# Altium integrated library TI Interface Touch Screen Controller.IntLib: 72 symbols (part 1 of 2)
Pins are listed as number, name and electrical type; pins without a type are passive.

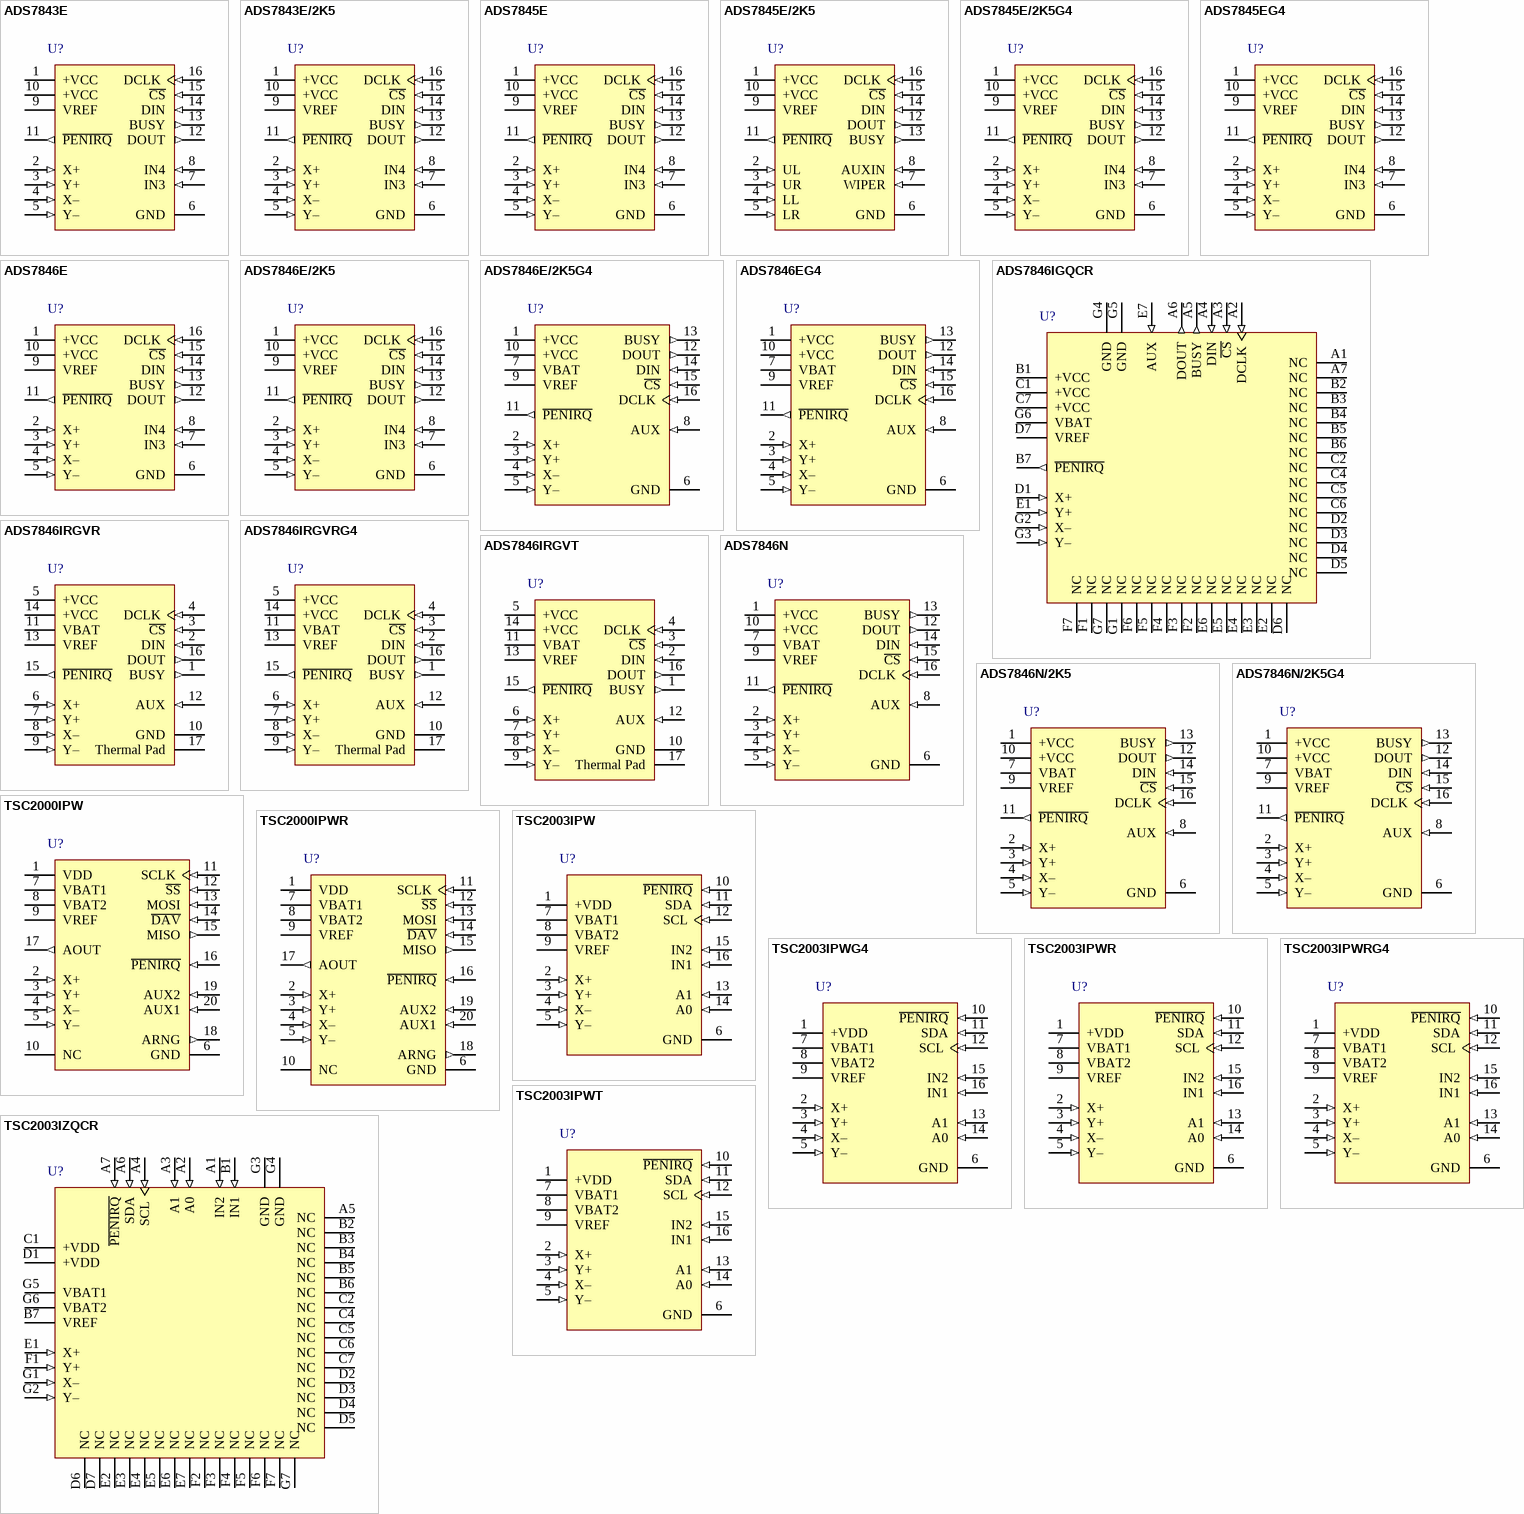
[diagram p0: symbols ADS7843E to TSC2003IZQCR]

## ADS7843E
designator U?
4-Wire Touch Screen Controller, 16-Pin SSOP, Pb-Free; Published: 6-Oct-2005; DatasheetVersion: May-2002; PackageVersion: Feb-2005; PackageReference: DBQ016; Publisher: Altium Limited; PackageDescription: SSOP; 16 Leads; Body Width 3.9 mm; Pitch 0.635 mm; Code_JEDEC: MO-137-AB; ComponentLink1Description: Manufacturer Link; ComponentLink1URL: http://focus.ti.com/docs/prod/folders/print/ads7843.html; ComponentLink2Description: Datasheet; ComponentLink2URL: http://focus.ti.com/lit/ds/symlink/ads7843.pdf
footprint DBQ016 (SSOP; 16 Leads; Body Width 3.9 mm; Pitch 0.635 mm)
pins: 1 +VCC (power), 2 X+ (in), 3 Y+ (in), 4 X– (in), 5 Y– (in), 6 GND (power), 7 IN3 (in), 8 IN4 (in), 9 VREF (power), 10 +VCC (power), 11 ~{PENIRQ} (out), 12 DOUT (out), 13 BUSY (out), 14 DIN (in), 15 ~{CS} (in), 16 DCLK (in)

## ADS7843E/2K5
designator U?
4-Wire Touch Screen Controller, 16-Pin SSOP, Pb-Free; Published: 6-Oct-2005; DatasheetVersion: May-2002; PackageVersion: Feb-2005; PackageReference: DBQ016; Publisher: Altium Limited; PackageDescription: SSOP; 16 Leads; Body Width 3.9 mm; Pitch 0.635 mm; Code_JEDEC: MO-137-AB; ComponentLink1Description: Manufacturer Link; ComponentLink1URL: http://focus.ti.com/docs/prod/folders/print/ads7843.html; ComponentLink2Description: Datasheet; ComponentLink2URL: http://focus.ti.com/lit/ds/symlink/ads7843.pdf
footprint DBQ016 (SSOP; 16 Leads; Body Width 3.9 mm; Pitch 0.635 mm)
pins: 1 +VCC (power), 2 X+ (in), 3 Y+ (in), 4 X– (in), 5 Y– (in), 6 GND (power), 7 IN3 (in), 8 IN4 (in), 9 VREF (power), 10 +VCC (power), 11 ~{PENIRQ} (out), 12 DOUT (out), 13 BUSY (out), 14 DIN (in), 15 ~{CS} (in), 16 DCLK (in)

## ADS7845E
designator U?
5-Wire Touch Screen Controller, 16-Pin SSOP, Pb-Free; Published: 6-Oct-2005; DatasheetVersion: Dec-1998; PackageVersion: Feb-2005; PackageReference: DBQ016; Publisher: Altium Limited; PackageDescription: SSOP; 16 Leads; Body Width 3.9 mm; Pitch 0.635 mm; Code_JEDEC: MO-137-AB; ComponentLink1Description: Manufacturer Link; ComponentLink1URL: http://focus.ti.com/docs/prod/folders/print/ads7845.html; ComponentLink2Description: Datasheet; ComponentLink2URL: http://focus.ti.com/lit/ds/symlink/ads7845.pdf
footprint DBQ016 (SSOP; 16 Leads; Body Width 3.9 mm; Pitch 0.635 mm)
pins: 1 +VCC (power), 2 X+ (in), 3 Y+ (in), 4 X– (in), 5 Y– (in), 6 GND (power), 7 IN3 (in), 8 IN4 (in), 9 VREF (power), 10 +VCC (power), 11 ~{PENIRQ} (out), 12 DOUT (out), 13 BUSY (out), 14 DIN (in), 15 ~{CS} (in), 16 DCLK (in)

## ADS7845E/2K5
designator U?
5-Wire Touch Screen Controller, 16-Pin SSOP, Pb-Free; Published: 6-Oct-2005; DatasheetVersion: Dec-1998; PackageVersion: Feb-2005; PackageReference: DBQ016; Publisher: Altium Limited; PackageDescription: SSOP; 16 Leads; Body Width 3.9 mm; Pitch 0.635 mm; Code_JEDEC: MO-137-AB; ComponentLink1Description: Manufacturer Link; ComponentLink1URL: http://focus.ti.com/docs/prod/folders/print/ads7845.html; ComponentLink2Description: Datasheet; ComponentLink2URL: http://focus.ti.com/lit/ds/symlink/ads7845.pdf
footprint DBQ016 (SSOP; 16 Leads; Body Width 3.9 mm; Pitch 0.635 mm)
pins: 1 +VCC (power), 2 UL (in), 3 UR (in), 4 LL (in), 5 LR (in), 6 GND (power), 7 WIPER (in), 8 AUXIN (in), 9 VREF (power), 10 +VCC (power), 11 ~{PENIRQ} (out), 12 DOUT (out), 13 BUSY (out), 14 DIN (in), 15 ~{CS} (in), 16 DCLK (in)

## ADS7845E/2K5G4
designator U?
5-Wire Touch Screen Controller, 16-Pin SSOP, Pb-Free; Published: 6-Oct-2005; DatasheetVersion: Dec-1998; PackageVersion: Feb-2005; PackageReference: DBQ016; Publisher: Altium Limited; PackageDescription: SSOP; 16 Leads; Body Width 3.9 mm; Pitch 0.635 mm; Code_JEDEC: MO-137-AB; ComponentLink1Description: Manufacturer Link; ComponentLink1URL: http://focus.ti.com/docs/prod/folders/print/ads7845.html; ComponentLink2Description: Datasheet; ComponentLink2URL: http://focus.ti.com/lit/ds/symlink/ads7845.pdf
footprint DBQ016 (SSOP; 16 Leads; Body Width 3.9 mm; Pitch 0.635 mm)
pins: 1 +VCC (power), 2 X+ (in), 3 Y+ (in), 4 X– (in), 5 Y– (in), 6 GND (power), 7 IN3 (in), 8 IN4 (in), 9 VREF (power), 10 +VCC (power), 11 ~{PENIRQ} (out), 12 DOUT (out), 13 BUSY (out), 14 DIN (in), 15 ~{CS} (in), 16 DCLK (in)

## ADS7845EG4
designator U?
5-Wire Touch Screen Controller, 16-Pin SSOP, Pb-Free; Published: 6-Oct-2005; DatasheetVersion: Dec-1998; PackageVersion: Feb-2005; PackageReference: DBQ016; Publisher: Altium Limited; PackageDescription: SSOP; 16 Leads; Body Width 3.9 mm; Pitch 0.635 mm; Code_JEDEC: MO-137-AB; ComponentLink1Description: Manufacturer Link; ComponentLink1URL: http://focus.ti.com/docs/prod/folders/print/ads7845.html; ComponentLink2Description: Datasheet; ComponentLink2URL: http://focus.ti.com/lit/ds/symlink/ads7845.pdf
footprint DBQ016 (SSOP; 16 Leads; Body Width 3.9 mm; Pitch 0.635 mm)
pins: 1 +VCC (power), 2 X+ (in), 3 Y+ (in), 4 X– (in), 5 Y– (in), 6 GND (power), 7 IN3 (in), 8 IN4 (in), 9 VREF (power), 10 +VCC (power), 11 ~{PENIRQ} (out), 12 DOUT (out), 13 BUSY (out), 14 DIN (in), 15 ~{CS} (in), 16 DCLK (in)

## ADS7846E
designator U?
4-Wire Touch Screen Controller, 16-Pin SSOP; Published: 6-Oct-2005; DatasheetVersion: Jan-2005; PackageVersion: Feb-2005; PackageReference: DBQ016; Publisher: Altium Limited; PackageDescription: SSOP; 16 Leads; Body Width 3.9 mm; Pitch 0.635 mm; Code_JEDEC: MO-137-AB; ComponentLink1Description: Manufacturer Link; ComponentLink1URL: http://focus.ti.com/docs/prod/folders/print/ads7846.html; ComponentLink2Description: Datasheet; ComponentLink2URL: http://focus.ti.com/lit/ds/symlink/ads7846.pdf
footprint DBQ016 (SSOP; 16 Leads; Body Width 3.9 mm; Pitch 0.635 mm)
pins: 1 +VCC (power), 2 X+ (in), 3 Y+ (in), 4 X– (in), 5 Y– (in), 6 GND (power), 7 IN3 (in), 8 IN4 (in), 9 VREF (power), 10 +VCC (power), 11 ~{PENIRQ} (out), 12 DOUT (out), 13 BUSY (out), 14 DIN (in), 15 ~{CS} (in), 16 DCLK (in)

## ADS7846E/2K5
designator U?
4-Wire Touch Screen Controller, 16-Pin SSOP; Published: 6-Oct-2005; DatasheetVersion: Jan-2005; PackageVersion: Feb-2005; PackageReference: DBQ016; Publisher: Altium Limited; PackageDescription: SSOP; 16 Leads; Body Width 3.9 mm; Pitch 0.635 mm; Code_JEDEC: MO-137-AB; ComponentLink1Description: Manufacturer Link; ComponentLink1URL: http://focus.ti.com/docs/prod/folders/print/ads7846.html; ComponentLink2Description: Datasheet; ComponentLink2URL: http://focus.ti.com/lit/ds/symlink/ads7846.pdf
footprint DBQ016 (SSOP; 16 Leads; Body Width 3.9 mm; Pitch 0.635 mm)
pins: 1 +VCC (power), 2 X+ (in), 3 Y+ (in), 4 X– (in), 5 Y– (in), 6 GND (power), 7 IN3 (in), 8 IN4 (in), 9 VREF (power), 10 +VCC (power), 11 ~{PENIRQ} (out), 12 DOUT (out), 13 BUSY (out), 14 DIN (in), 15 ~{CS} (in), 16 DCLK (in)

## ADS7846E/2K5G4
designator U?
4-Wire Touch Screen Controller, 16-Pin SSOP, Pb-Free; Published: 6-Oct-2005; DatasheetVersion: Jan-2005; PackageVersion: Feb-2005; PackageReference: DBQ016; Publisher: Altium Limited; PackageDescription: SSOP; 16 Leads; Body Width 3.9 mm; Pitch 0.635 mm; Code_JEDEC: MO-137-AB; ComponentLink1Description: Manufacturer Link; ComponentLink1URL: http://focus.ti.com/docs/prod/folders/print/ads7846.html; ComponentLink2Description: Datasheet; ComponentLink2URL: http://focus.ti.com/lit/ds/symlink/ads7846.pdf
footprint DBQ016 (SSOP; 16 Leads; Body Width 3.9 mm; Pitch 0.635 mm)
pins: 1 +VCC (power), 2 X+ (in), 3 Y+ (in), 4 X– (in), 5 Y– (in), 6 GND (power), 7 VBAT (power), 8 AUX (in), 9 VREF (power), 10 +VCC (power), 11 ~{PENIRQ} (out), 12 DOUT (out), 13 BUSY (out), 14 DIN (in), 15 ~{CS} (in), 16 DCLK (in)

## ADS7846EG4
designator U?
4-Wire Touch Screen Controller, 16-Pin SSOP, Pb-Free; Published: 6-Oct-2005; DatasheetVersion: Jan-2005; PackageVersion: Feb-2005; PackageReference: DBQ016; Publisher: Altium Limited; PackageDescription: SSOP; 16 Leads; Body Width 3.9 mm; Pitch 0.635 mm; Code_JEDEC: MO-137-AB; ComponentLink1Description: Manufacturer Link; ComponentLink1URL: http://focus.ti.com/docs/prod/folders/print/ads7846.html; ComponentLink2Description: Datasheet; ComponentLink2URL: http://focus.ti.com/lit/ds/symlink/ads7846.pdf
footprint DBQ016 (SSOP; 16 Leads; Body Width 3.9 mm; Pitch 0.635 mm)
pins: 1 +VCC (power), 2 X+ (in), 3 Y+ (in), 4 X– (in), 5 Y– (in), 6 GND (power), 7 VBAT (power), 8 AUX (in), 9 VREF (power), 10 +VCC (power), 11 ~{PENIRQ} (out), 12 DOUT (out), 13 BUSY (out), 14 DIN (in), 15 ~{CS} (in), 16 DCLK (in)

## ADS7846IGQCR
designator U?
4-Wire Touch Screen Controller, 48-Pin BGA Microstar Junior; Published: 6-Oct-2005; LatestRevisionDate: 13-Apr-2006; LatestRevisionNote: IPC-7351 Footprint Added.; DatasheetVersion: Jan-2005; PackageVersion: Jan-2002; PackageReference: GQC48; Publisher: Altium Limited; PackageDescription: 48-Ball Plastic Ball Grid Array 0.5 mm Pitch; Code_JEDEC: MO-225; ComponentLink1Description: Manufacturer Link; ComponentLink1URL: http://focus.ti.com/docs/prod/folders/print/ads7846.html; ComponentLink2Description: Datasheet; ComponentLink2URL: http://focus.ti.com/lit/ds/symlink/ads7846.pdf
footprint GQC48 (BGA, 48-Leads, Body 4x4mm, Pitch 0.5mm)
pins: A1 NC, A2 DCLK (in), A3 ~{CS} (in), A4 DIN (in), A5 BUSY (out), A6 DOUT (out), A7 NC, B1 +VCC (power), B2 NC, B3 NC, B4 NC, B5 NC, B6 NC, B7 ~{PENIRQ} (out), C1 +VCC (power), C2 NC, C4 NC, C5 NC, C6 NC, C7 +VCC (power), D1 X+ (in), D2 NC, D3 NC, D4 NC, D5 NC, D6 NC, D7 VREF (power), E1 Y+ (in), E2 NC, E3 NC, E4 NC, E5 NC, E6 NC, E7 AUX (in), F1 NC, F2 NC, F3 NC, F4 NC, F5 NC, F6 NC, F7 NC, G1 NC, G2 X– (in), G3 Y– (in), G4 GND (power), G5 GND (power), G6 VBAT (power), G7 NC

## ADS7846IRGVR
designator U?
4-Wire Touch Screen Controller, 16-Pin PQFN; Published: 6-Oct-2005; LatestRevisionDate: 13-Apr-2006; LatestRevisionNote: IPC-7351 Footprint Added.; DatasheetVersion: Jan-2005; PackageVersion: Apr-2003; PackageReference: RGV16; Publisher: Altium Limited; PackageDescription: 16-Pin Plastic Quad Flat No-Lead 0.65 mm Pitch; Code_JEDEC: MO-220; ComponentLink1Description: Manufacturer Link; ComponentLink1URL: http://focus.ti.com/docs/prod/folders/print/ads7846.html; ComponentLink2Description: Datasheet; ComponentLink2URL: http://focus.ti.com/lit/ds/symlink/ads7846.pdf
footprint RGV16_N (QFN, 16-Leads, Body 4x4 mm, Pitch 0.65mm, IPC Medium Density)
footprint RGV16_L (QFN, 16-Leads, Body 4x4 mm, Pitch 0.65mm, IPC High Density)
footprint RGV16_M (QFN, 16-Leads, Body 4x4 mm, Pitch 0.65mm, IPC Low Density)
pins: 1 BUSY (out), 2 DIN (in), 3 ~{CS} (in), 4 DCLK (in), 5 +VCC (power), 6 X+ (in), 7 Y+ (in), 8 X– (in), 9 Y– (in), 10 GND (power), 11 VBAT (power), 12 AUX (in), 13 VREF (power), 14 +VCC (power), 15 ~{PENIRQ} (out), 16 DOUT (out), 17 Thermal Pad (power)

## ADS7846IRGVRG4
designator U?
4-Wire Touch Screen Controller, 16-Pin PQFN, Pb-Free; Published: 6-Oct-2005; LatestRevisionDate: 13-Apr-2006; LatestRevisionNote: IPC-7351 Footprint Added.; DatasheetVersion: Jan-2005; PackageVersion: Apr-2003; PackageReference: RGV16; Publisher: Altium Limited; PackageDescription: 16-Pin Plastic Quad Flat No-Lead 0.65 mm Pitch; Code_JEDEC: MO-220; ComponentLink1Description: Manufacturer Link; ComponentLink1URL: http://focus.ti.com/docs/prod/folders/print/ads7846.html; ComponentLink2Description: Datasheet; ComponentLink2URL: http://focus.ti.com/lit/ds/symlink/ads7846.pdf
footprint RGV16_N (QFN, 16-Leads, Body 4x4 mm, Pitch 0.65mm, IPC Medium Density)
footprint RGV16_L (QFN, 16-Leads, Body 4x4 mm, Pitch 0.65mm, IPC High Density)
footprint RGV16_M (QFN, 16-Leads, Body 4x4 mm, Pitch 0.65mm, IPC Low Density)
pins: 1 BUSY (out), 2 DIN (in), 3 ~{CS} (in), 4 DCLK (in), 5 +VCC (power), 6 X+ (in), 7 Y+ (in), 8 X– (in), 9 Y– (in), 10 GND (power), 11 VBAT (power), 12 AUX (in), 13 VREF (power), 14 +VCC (power), 15 ~{PENIRQ} (out), 16 DOUT (out), 17 Thermal Pad (power)

## ADS7846IRGVT
designator U?
4-Wire Touch Screen Controller, 16-Pin PQFN; Published: 6-Oct-2005; LatestRevisionDate: 13-Apr-2006; LatestRevisionNote: IPC-7351 Footprint Added.; DatasheetVersion: Jan-2005; PackageVersion: Apr-2003; PackageReference: RGV16; Publisher: Altium Limited; PackageDescription: 16-Pin Plastic Quad Flat No-Lead 0.65 mm Pitch; Code_JEDEC: MO-220; ComponentLink1Description: Manufacturer Link; ComponentLink1URL: http://focus.ti.com/docs/prod/folders/print/ads7846.html; ComponentLink2Description: Datasheet; ComponentLink2URL: http://focus.ti.com/lit/ds/symlink/ads7846.pdf
footprint RGV16_N (QFN, 16-Leads, Body 4x4 mm, Pitch 0.65mm, IPC Medium Density)
footprint RGV16_L (QFN, 16-Leads, Body 4x4 mm, Pitch 0.65mm, IPC High Density)
footprint RGV16_M (QFN, 16-Leads, Body 4x4 mm, Pitch 0.65mm, IPC Low Density)
pins: 1 BUSY (out), 2 DIN (in), 3 ~{CS} (in), 4 DCLK (in), 5 +VCC (power), 6 X+ (in), 7 Y+ (in), 8 X– (in), 9 Y– (in), 10 GND (power), 11 VBAT (power), 12 AUX (in), 13 VREF (power), 14 +VCC (power), 15 ~{PENIRQ} (out), 16 DOUT (out), 17 Thermal Pad (power)

## ADS7846N
designator U?
4-Wire Touch Screen Controller, 16-Pin TSSOP; Published: 6-Oct-2005; DatasheetVersion: Jan-2005; PackageVersion: Feb-1999; PackageReference: PW016; Publisher: Altium Limited; PackageDescription: Shrink Small Outline; 16 Leads; Body Width 4.4 mm; Pitch 0.65 mm; ComponentLink1Description: Manufacturer Link; ComponentLink1URL: http://focus.ti.com/docs/prod/folders/print/ads7846.html; ComponentLink2Description: Datasheet; ComponentLink2URL: http://focus.ti.com/lit/ds/symlink/ads7846.pdf
footprint PW016 (Shrink Small Outline; 16 Leads; Body Width 4.4 mm; Pitch 0.65 mm)
pins: 1 +VCC (power), 2 X+ (in), 3 Y+ (in), 4 X– (in), 5 Y– (in), 6 GND (power), 7 VBAT (power), 8 AUX (in), 9 VREF (power), 10 +VCC (power), 11 ~{PENIRQ} (out), 12 DOUT (out), 13 BUSY (out), 14 DIN (in), 15 ~{CS} (in), 16 DCLK (in)

## ADS7846N/2K5
designator U?
4-Wire Touch Screen Controller, 16-Pin TSSOP; Published: 6-Oct-2005; DatasheetVersion: Jan-2005; PackageVersion: Feb-1999; PackageReference: PW016; Publisher: Altium Limited; PackageDescription: Shrink Small Outline; 16 Leads; Body Width 4.4 mm; Pitch 0.65 mm; ComponentLink1Description: Manufacturer Link; ComponentLink1URL: http://focus.ti.com/docs/prod/folders/print/ads7846.html; ComponentLink2Description: Datasheet; ComponentLink2URL: http://focus.ti.com/lit/ds/symlink/ads7846.pdf
footprint PW016 (Shrink Small Outline; 16 Leads; Body Width 4.4 mm; Pitch 0.65 mm)
pins: 1 +VCC (power), 2 X+ (in), 3 Y+ (in), 4 X– (in), 5 Y– (in), 6 GND (power), 7 VBAT (power), 8 AUX (in), 9 VREF (power), 10 +VCC (power), 11 ~{PENIRQ} (out), 12 DOUT (out), 13 BUSY (out), 14 DIN (in), 15 ~{CS} (in), 16 DCLK (in)

## ADS7846N/2K5G4
designator U?
4-Wire Touch Screen Controller, 16-Pin TSSOP, Pb-Free; Published: 6-Oct-2005; DatasheetVersion: Jan-2005; PackageVersion: Feb-1999; PackageReference: PW016; Publisher: Altium Limited; PackageDescription: Shrink Small Outline; 16 Leads; Body Width 4.4 mm; Pitch 0.65 mm; ComponentLink1Description: Manufacturer Link; ComponentLink1URL: http://focus.ti.com/docs/prod/folders/print/ads7846.html; ComponentLink2Description: Datasheet; ComponentLink2URL: http://focus.ti.com/lit/ds/symlink/ads7846.pdf
footprint PW016 (Shrink Small Outline; 16 Leads; Body Width 4.4 mm; Pitch 0.65 mm)
pins: 1 +VCC (power), 2 X+ (in), 3 Y+ (in), 4 X– (in), 5 Y– (in), 6 GND (power), 7 VBAT (power), 8 AUX (in), 9 VREF (power), 10 +VCC (power), 11 ~{PENIRQ} (out), 12 DOUT (out), 13 BUSY (out), 14 DIN (in), 15 ~{CS} (in), 16 DCLK (in)

## TSC2000IPW
designator U?
4-Wire Programmable Touch Screen Controller with 8/10/12-Bit 125-KHz ADC and SPI Interface, 20-Pin TSSOP, Pb-Free; Published: 6-Oct-2005; DatasheetVersion: Feb-2002; PackageVersion: Feb-1999; PackageReference: PW020; Publisher: Altium Limited; PackageDescription: Shrink Small Outline; 20 Leads; Body Width 4.4 mm; Pitch 0.65 mm; ComponentLink1Description: Manufacturer Link; ComponentLink1URL: http://focus.ti.com/docs/prod/folders/print/tsc2000.html; ComponentLink2Description: Datasheet; ComponentLink2URL: http://focus.ti.com/lit/ds/symlink/tcs2000.pdf
footprint PW020 (Shrink Small Outline; 20 Leads; Body Width 4.4 mm; Pitch 0.65 mm)
pins: 1 VDD (power), 2 X+ (in), 3 Y+ (in), 4 X– (in), 5 Y– (in), 6 GND (power), 7 VBAT1 (power), 8 VBAT2 (power), 9 VREF (power), 10 NC, 11 SCLK (in), 12 ~{SS} (in), 13 MOSI (in), 14 ~{DAV} (in), 15 MISO (out), 16 ~{PENIRQ} (in), 17 AOUT (out), 18 ARNG (out), 19 AUX2 (in), 20 AUX1 (in)

## TSC2000IPWR
designator U?
4-Wire Programmable Touch Screen Controller with 8/10/12-Bit 125-KHz ADC and SPI Interface, 20-Pin TSSOP, Pb-Free; Published: 6-Oct-2005; DatasheetVersion: Feb-2002; PackageVersion: Feb-1999; PackageReference: PW020; Publisher: Altium Limited; PackageDescription: Shrink Small Outline; 20 Leads; Body Width 4.4 mm; Pitch 0.65 mm; ComponentLink1Description: Manufacturer Link; ComponentLink1URL: http://focus.ti.com/docs/prod/folders/print/tsc2000.html; ComponentLink2Description: Datasheet; ComponentLink2URL: http://focus.ti.com/lit/ds/symlink/tcs2000.pdf
footprint PW020 (Shrink Small Outline; 20 Leads; Body Width 4.4 mm; Pitch 0.65 mm)
pins: 1 VDD (power), 2 X+ (in), 3 Y+ (in), 4 X– (in), 5 Y– (in), 6 GND (power), 7 VBAT1 (power), 8 VBAT2 (power), 9 VREF (power), 10 NC, 11 SCLK (in), 12 ~{SS} (in), 13 MOSI (in), 14 ~{DAV} (in), 15 MISO (out), 16 ~{PENIRQ} (in), 17 AOUT (out), 18 ARNG (out), 19 AUX2 (in), 20 AUX1 (in)

## TSC2003IPW
designator U?
4-Wire Resistive Touch Screen Controller, 16-Pin TSSOP, Pb-Free; Published: 6-Oct-2005; DatasheetVersion: Jan-2005; PackageVersion: Feb-1999; PackageReference: PW016; Publisher: Altium Limited; PackageDescription: Shrink Small Outline; 16 Leads; Body Width 4.4 mm; Pitch 0.65 mm; ComponentLink1Description: Manufacturer Link; ComponentLink1URL: http://focus.ti.com/docs/prod/folders/print/tsc2003.html; ComponentLink2Description: Datasheet; ComponentLink2URL: http://focus.ti.com/lit/ds/symlink/tcs2003.pdf
footprint PW016 (Shrink Small Outline; 16 Leads; Body Width 4.4 mm; Pitch 0.65 mm)
pins: 1 +VDD (power), 2 X+ (in), 3 Y+ (in), 4 X– (in), 5 Y– (in), 6 GND (power), 7 VBAT1 (power), 8 VBAT2 (power), 9 VREF (power), 10 ~{PENIRQ} (in), 11 SDA (in), 12 SCL (in), 13 A1 (in), 14 A0 (in), 15 IN2 (in), 16 IN1 (in)

## TSC2003IPWG4
designator U?
4-Wire Resistive Touch Screen Controller, 16-Pin TSSOP, Pb-Free; Published: 6-Oct-2005; DatasheetVersion: Jan-2005; PackageVersion: Feb-1999; PackageReference: PW016; Publisher: Altium Limited; PackageDescription: Shrink Small Outline; 16 Leads; Body Width 4.4 mm; Pitch 0.65 mm; ComponentLink1Description: Manufacturer Link; ComponentLink1URL: http://focus.ti.com/docs/prod/folders/print/tsc2003.html; ComponentLink2Description: Datasheet; ComponentLink2URL: http://focus.ti.com/lit/ds/symlink/tcs2003.pdf
footprint PW016 (Shrink Small Outline; 16 Leads; Body Width 4.4 mm; Pitch 0.65 mm)
pins: 1 +VDD (power), 2 X+ (in), 3 Y+ (in), 4 X– (in), 5 Y– (in), 6 GND (power), 7 VBAT1 (power), 8 VBAT2 (power), 9 VREF (power), 10 ~{PENIRQ} (in), 11 SDA (in), 12 SCL (in), 13 A1 (in), 14 A0 (in), 15 IN2 (in), 16 IN1 (in)

## TSC2003IPWR
designator U?
4-Wire Resistive Touch Screen Controller, 16-Pin TSSOP, Pb-Free; Published: 6-Oct-2005; DatasheetVersion: Jan-2005; PackageVersion: Feb-1999; PackageReference: PW016; Publisher: Altium Limited; PackageDescription: Shrink Small Outline; 16 Leads; Body Width 4.4 mm; Pitch 0.65 mm; ComponentLink1Description: Manufacturer Link; ComponentLink1URL: http://focus.ti.com/docs/prod/folders/print/tsc2003.html; ComponentLink2Description: Datasheet; ComponentLink2URL: http://focus.ti.com/lit/ds/symlink/tcs2003.pdf
footprint PW016 (Shrink Small Outline; 16 Leads; Body Width 4.4 mm; Pitch 0.65 mm)
pins: 1 +VDD (power), 2 X+ (in), 3 Y+ (in), 4 X– (in), 5 Y– (in), 6 GND (power), 7 VBAT1 (power), 8 VBAT2 (power), 9 VREF (power), 10 ~{PENIRQ} (in), 11 SDA (in), 12 SCL (in), 13 A1 (in), 14 A0 (in), 15 IN2 (in), 16 IN1 (in)

## TSC2003IPWRG4
designator U?
4-Wire Resistive Touch Screen Controller, 16-Pin TSSOP, Pb-Free; Published: 6-Oct-2005; DatasheetVersion: Jan-2005; PackageVersion: Feb-1999; PackageReference: PW016; Publisher: Altium Limited; PackageDescription: Shrink Small Outline; 16 Leads; Body Width 4.4 mm; Pitch 0.65 mm; ComponentLink1Description: Manufacturer Link; ComponentLink1URL: http://focus.ti.com/docs/prod/folders/print/tsc2003.html; ComponentLink2Description: Datasheet; ComponentLink2URL: http://focus.ti.com/lit/ds/symlink/tcs2003.pdf
footprint PW016 (Shrink Small Outline; 16 Leads; Body Width 4.4 mm; Pitch 0.65 mm)
pins: 1 +VDD (power), 2 X+ (in), 3 Y+ (in), 4 X– (in), 5 Y– (in), 6 GND (power), 7 VBAT1 (power), 8 VBAT2 (power), 9 VREF (power), 10 ~{PENIRQ} (in), 11 SDA (in), 12 SCL (in), 13 A1 (in), 14 A0 (in), 15 IN2 (in), 16 IN1 (in)

## TSC2003IPWT
designator U?
4-Wire Resistive Touch Screen Controller, 48-Pin TSSOP; Published: 6-Oct-2005; DatasheetVersion: Jan-2005; PackageVersion: Feb-1999; PackageReference: PW016; Publisher: Altium Limited; PackageDescription: Shrink Small Outline; 16 Leads; Body Width 4.4 mm; Pitch 0.65 mm; ComponentLink1Description: Manufacturer Link; ComponentLink1URL: http://focus.ti.com/docs/prod/folders/print/tsc2003.html; ComponentLink2Description: Datasheet; ComponentLink2URL: http://focus.ti.com/lit/ds/symlink/tcs2003.pdf
footprint PW016 (Shrink Small Outline; 16 Leads; Body Width 4.4 mm; Pitch 0.65 mm)
pins: 1 +VDD (power), 2 X+ (in), 3 Y+ (in), 4 X– (in), 5 Y– (in), 6 GND (power), 7 VBAT1 (power), 8 VBAT2 (power), 9 VREF (power), 10 ~{PENIRQ} (in), 11 SDA (in), 12 SCL (in), 13 A1 (in), 14 A0 (in), 15 IN2 (in), 16 IN1 (in)

## TSC2003IZQCR
designator U?
4-Wire Resistive Touch Screen Controller, 48-Pin PBGA, Pb-Free; Published: 6-Oct-2005; LatestRevisionDate: 13-Apr-2006; LatestRevisionNote: IPC-7351 Footprint Added.; DatasheetVersion: Jan-2005; PackageVersion: Oct-2002; PackageReference: ZQC48; Publisher: Altium Limited; PackageDescription: 48-Ball Plastic Ball Grid Array 0.5 mm Pitch; Code_JEDEC: MO-225; ComponentLink1Description: Manufacturer Link; ComponentLink1URL: http://focus.ti.com/docs/prod/folders/print/tsc2003.html; ComponentLink2Description: Datasheet; ComponentLink2URL: http://focus.ti.com/lit/ds/symlink/tcs2003.pdf
footprint ZQC48 (BGA, 48-Leads, Body 4x4mm, Pitch 0.5mm)
pins: A1 IN2 (in), A2 A0 (in), A3 A1 (in), A4 SCL (in), A5 NC, A6 SDA (in), A7 ~{PENIRQ} (in), B1 IN1 (in), B2 NC, B3 NC, B4 NC, B5 NC, B6 NC, B7 VREF (power), C1 +VDD (power), C2 NC, C4 NC, C5 NC, C6 NC, C7 NC, D1 +VDD (power), D2 NC, D3 NC, D4 NC, D5 NC, D6 NC, D7 NC, E1 X+ (in), E2 NC, E3 NC, E4 NC, E5 NC, E6 NC, E7 NC, F1 Y+ (in), F2 NC, F3 NC, F4 NC, F5 NC, F6 NC, F7 NC, G1 X– (in), G2 Y– (in), G3 GND (power), G4 GND (power), G5 VBAT1 (power), G6 VBAT2 (power), G7 NC

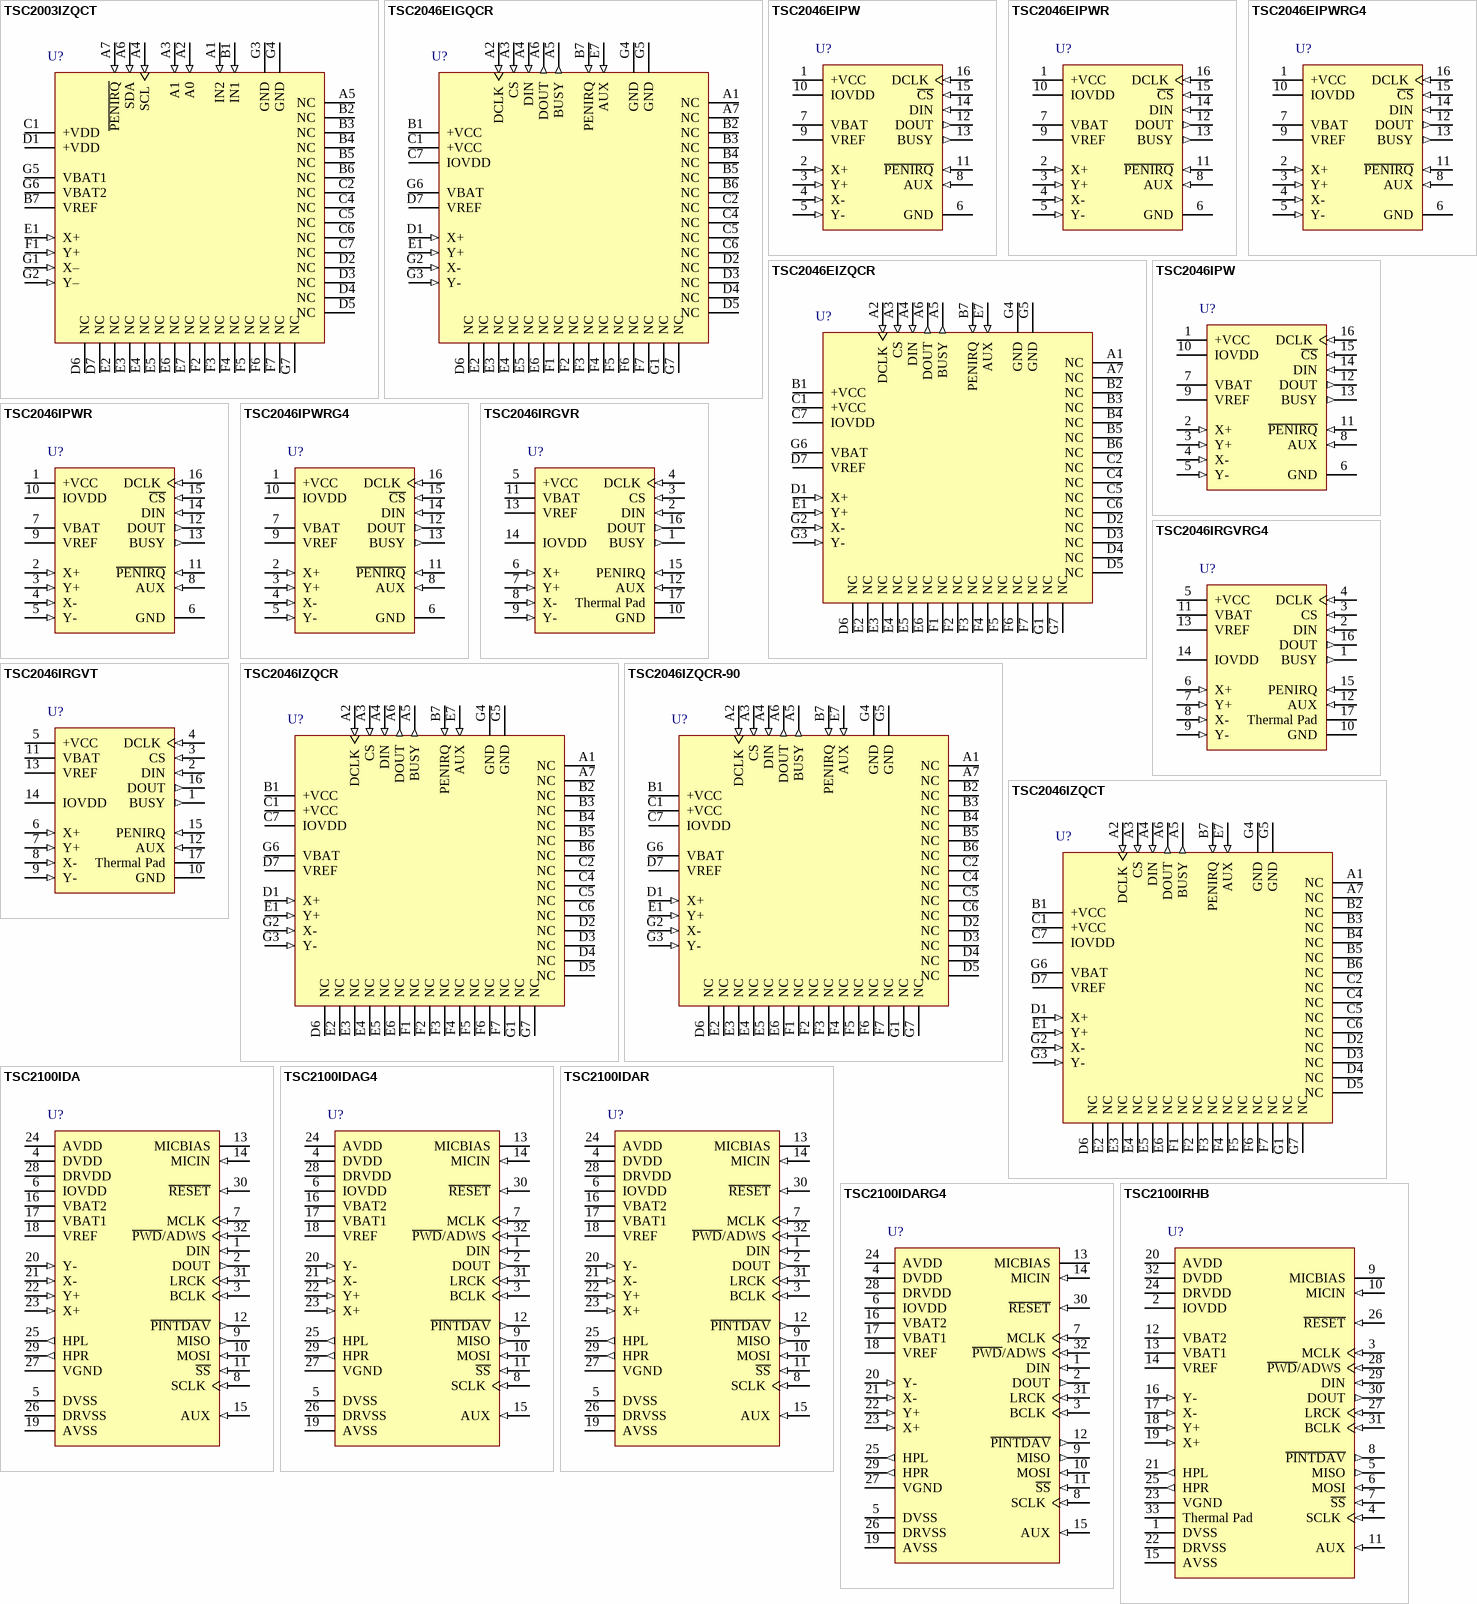
[diagram p1: symbols TSC2003IZQCT to TSC2100IRHB]

## TSC2003IZQCT
designator U?
4-Wire Resistive Touch Screen Controller, 48-Pin PBGA; Published: 6-Oct-2005; LatestRevisionDate: 13-Apr-2006; LatestRevisionNote: IPC-7351 Footprint Added.; DatasheetVersion: Jan-2005; PackageVersion: Oct-2002; PackageReference: ZQC48; Publisher: Altium Limited; PackageDescription: 48-Ball Plastic Ball Grid Array 0.5 mm Pitch; Code_JEDEC: MO-225; ComponentLink1Description: Manufacturer Link; ComponentLink1URL: http://focus.ti.com/docs/prod/folders/print/tsc2003.html; ComponentLink2Description: Datasheet; ComponentLink2URL: http://focus.ti.com/lit/ds/symlink/tcs2003.pdf
footprint ZQC48 (BGA, 48-Leads, Body 4x4mm, Pitch 0.5mm)
pins: A1 IN2 (in), A2 A0 (in), A3 A1 (in), A4 SCL (in), A5 NC, A6 SDA (in), A7 ~{PENIRQ} (in), B1 IN1 (in), B2 NC, B3 NC, B4 NC, B5 NC, B6 NC, B7 VREF (power), C1 +VDD (power), C2 NC, C4 NC, C5 NC, C6 NC, C7 NC, D1 +VDD (power), D2 NC, D3 NC, D4 NC, D5 NC, D6 NC, D7 NC, E1 X+ (in), E2 NC, E3 NC, E4 NC, E5 NC, E6 NC, E7 NC, F1 Y+ (in), F2 NC, F3 NC, F4 NC, F5 NC, F6 NC, F7 NC, G1 X– (in), G2 Y– (in), G3 GND (power), G4 GND (power), G5 VBAT1 (power), G6 VBAT2 (power), G7 NC

## TSC2046EIGQCR
designator U?
4-Wire Touch Screen controller with Low-Voltage I/O Interface, 48-Pin VFBGA; Published: 6-Oct-2005; LatestRevisionDate: 13-Apr-2006; LatestRevisionNote: IPC-7351 Footprint Added.; DatasheetVersion: Jan-2005; PackageVersion: Jan-2002; PackageReference: GQC48; Publisher: Altium Limited; PackageDescription: 48-Ball Plastic Ball Grid Array 0.5 mm Pitch; Code_JEDEC: MO-225; ComponentLink1Description: Manufacturer Link; ComponentLink1URL: http://focus.ti.com/docs/prod/folders/print/tsc2046.html; ComponentLink2Description: Datasheet; ComponentLink2URL: http://focus.ti.com/lit/ds/symlink/tcs2046.pdf
footprint GQC48 (BGA, 48-Leads, Body 4x4mm, Pitch 0.5mm)
pins: A1 NC, A2 DCLK (in), A3 CS (in), A4 DIN (in), A5 BUSY (out), A6 DOUT (out), A7 NC, B1 +VCC (power), B2 NC, B3 NC, B4 NC, B5 NC, B6 NC, B7 PENIRQ (in), C1 +VCC (power), C2 NC, C4 NC, C5 NC, C6 NC, C7 IOVDD (power), D1 X+ (in), D2 NC, D3 NC, D4 NC, D5 NC, D6 NC, D7 VREF (power), E1 Y+ (in), E2 NC, E3 NC, E4 NC, E5 NC, E6 NC, E7 AUX (in), F1 NC, F2 NC, F3 NC, F4 NC, F5 NC, F6 NC, F7 NC, G1 NC, G2 X- (in), G3 Y- (in), G4 GND (power), G5 GND (power), G6 VBAT (power), G7 NC

## TSC2046EIPW
designator U?
4-Wire Touch Screen controller with Low-Voltage I/O Interface, 16-Pin TSSOP; Published: 6-Oct-2005; DatasheetVersion: Jan-2005; PackageVersion: Feb-1999; PackageReference: PW016; Publisher: Altium Limited; PackageDescription: Shrink Small Outline; 16 Leads; Body Width 4.4 mm; Pitch 0.65 mm; ComponentLink1Description: Manufacturer Link; ComponentLink1URL: http://focus.ti.com/docs/prod/folders/print/tsc2046.html; ComponentLink2Description: Datasheet; ComponentLink2URL: http://focus.ti.com/lit/ds/symlink/tcs2046.pdf
footprint PW016 (Shrink Small Outline; 16 Leads; Body Width 4.4 mm; Pitch 0.65 mm)
pins: 1 +VCC (power), 2 X+ (in), 3 Y+ (in), 4 X- (in), 5 Y- (in), 6 GND (power), 7 VBAT (power), 8 AUX (in), 9 VREF (power), 10 IOVDD (power), 11 ~{PENIRQ} (in), 12 DOUT (out), 13 BUSY (out), 14 DIN (in), 15 ~{CS} (in), 16 DCLK (in)

## TSC2046EIPWR
designator U?
4-Wire Touch Screen controller with Low-Voltage I/O Interface, 16-Pin TSSOP; Published: 6-Oct-2005; DatasheetVersion: Jan-2005; PackageVersion: Feb-1999; PackageReference: PW016; Publisher: Altium Limited; PackageDescription: Shrink Small Outline; 16 Leads; Body Width 4.4 mm; Pitch 0.65 mm; ComponentLink1Description: Manufacturer Link; ComponentLink1URL: http://focus.ti.com/docs/prod/folders/print/tsc2046.html; ComponentLink2Description: Datasheet; ComponentLink2URL: http://focus.ti.com/lit/ds/symlink/tcs2046.pdf
footprint PW016 (Shrink Small Outline; 16 Leads; Body Width 4.4 mm; Pitch 0.65 mm)
pins: 1 +VCC (power), 2 X+ (in), 3 Y+ (in), 4 X- (in), 5 Y- (in), 6 GND (power), 7 VBAT (power), 8 AUX (in), 9 VREF (power), 10 IOVDD (power), 11 ~{PENIRQ} (in), 12 DOUT (out), 13 BUSY (out), 14 DIN (in), 15 ~{CS} (in), 16 DCLK (in)

## TSC2046EIPWRG4
designator U?
4-Wire Touch Screen controller with Low-Voltage I/O Interface, 16-Pin TSSOP; Published: 6-Oct-2005; DatasheetVersion: Jan-2005; PackageVersion: Feb-1999; PackageReference: PW016; Publisher: Altium Limited; PackageDescription: Shrink Small Outline; 16 Leads; Body Width 4.4 mm; Pitch 0.65 mm; ComponentLink1Description: Manufacturer Link; ComponentLink1URL: http://focus.ti.com/docs/prod/folders/print/tsc2046.html; ComponentLink2Description: Datasheet; ComponentLink2URL: http://focus.ti.com/lit/ds/symlink/tcs2046.pdf
footprint PW016 (Shrink Small Outline; 16 Leads; Body Width 4.4 mm; Pitch 0.65 mm)
pins: 1 +VCC (power), 2 X+ (in), 3 Y+ (in), 4 X- (in), 5 Y- (in), 6 GND (power), 7 VBAT (power), 8 AUX (in), 9 VREF (power), 10 IOVDD (power), 11 ~{PENIRQ} (in), 12 DOUT (out), 13 BUSY (out), 14 DIN (in), 15 ~{CS} (in), 16 DCLK (in)

## TSC2046EIZQCR
designator U?
4-Wire Touch Screen controller with Low-Voltage I/O Interface, 48-Pin BGA Microstar Junior; Published: 6-Oct-2005; LatestRevisionDate: 13-Apr-2006; LatestRevisionNote: IPC-7351 Footprint Added.; DatasheetVersion: Jan-2005; PackageVersion: Oct-2002; PackageReference: ZQC48; Publisher: Altium Limited; PackageDescription: 48-Ball Plastic Ball Grid Array 0.5 mm Pitch; Code_JEDEC: MO-225; ComponentLink1Description: Manufacturer Link; ComponentLink1URL: http://focus.ti.com/docs/prod/folders/print/tsc2046.html; ComponentLink2Description: Datasheet; ComponentLink2URL: http://focus.ti.com/lit/ds/symlink/tcs2046.pdf
footprint ZQC48 (BGA, 48-Leads, Body 4x4mm, Pitch 0.5mm)
pins: A1 NC, A2 DCLK (in), A3 CS (in), A4 DIN (in), A5 BUSY (out), A6 DOUT (out), A7 NC, B1 +VCC (power), B2 NC, B3 NC, B4 NC, B5 NC, B6 NC, B7 PENIRQ (in), C1 +VCC (power), C2 NC, C4 NC, C5 NC, C6 NC, C7 IOVDD (power), D1 X+ (in), D2 NC, D3 NC, D4 NC, D5 NC, D6 NC, D7 VREF (power), E1 Y+ (in), E2 NC, E3 NC, E4 NC, E5 NC, E6 NC, E7 AUX (in), F1 NC, F2 NC, F3 NC, F4 NC, F5 NC, F6 NC, F7 NC, G1 NC, G2 X- (in), G3 Y- (in), G4 GND (power), G5 GND (power), G6 VBAT (power), G7 NC

## TSC2046IPW
designator U?
4-Wire Touch Screen controller with Low-Voltage I/O Interface, 16-Pin TSSOP, Pb-Free; Published: 6-Oct-2005; DatasheetVersion: Jan-2005; PackageVersion: Feb-1999; PackageReference: PW016; Publisher: Altium Limited; PackageDescription: Shrink Small Outline; 16 Leads; Body Width 4.4 mm; Pitch 0.65 mm; ComponentLink1Description: Manufacturer Link; ComponentLink1URL: http://focus.ti.com/docs/prod/folders/print/tsc2046.html; ComponentLink2Description: Datasheet; ComponentLink2URL: http://focus.ti.com/lit/ds/symlink/tcs2046.pdf
footprint PW016 (Shrink Small Outline; 16 Leads; Body Width 4.4 mm; Pitch 0.65 mm)
pins: 1 +VCC (power), 2 X+ (in), 3 Y+ (in), 4 X- (in), 5 Y- (in), 6 GND (power), 7 VBAT (power), 8 AUX (in), 9 VREF (power), 10 IOVDD (power), 11 ~{PENIRQ} (in), 12 DOUT (out), 13 BUSY (out), 14 DIN (in), 15 ~{CS} (in), 16 DCLK (in)

## TSC2046IPWR
designator U?
4-Wire Touch Screen controller with Low-Voltage I/O Interface, 16-Pin TSSOP, Pb-Free; Published: 6-Oct-2005; DatasheetVersion: Jan-2005; PackageVersion: Feb-1999; PackageReference: PW016; Publisher: Altium Limited; PackageDescription: Shrink Small Outline; 16 Leads; Body Width 4.4 mm; Pitch 0.65 mm; ComponentLink1Description: Manufacturer Link; ComponentLink1URL: http://focus.ti.com/docs/prod/folders/print/tsc2046.html; ComponentLink2Description: Datasheet; ComponentLink2URL: http://focus.ti.com/lit/ds/symlink/tcs2046.pdf
footprint PW016 (Shrink Small Outline; 16 Leads; Body Width 4.4 mm; Pitch 0.65 mm)
pins: 1 +VCC (power), 2 X+ (in), 3 Y+ (in), 4 X- (in), 5 Y- (in), 6 GND (power), 7 VBAT (power), 8 AUX (in), 9 VREF (power), 10 IOVDD (power), 11 ~{PENIRQ} (in), 12 DOUT (out), 13 BUSY (out), 14 DIN (in), 15 ~{CS} (in), 16 DCLK (in)

## TSC2046IPWRG4
designator U?
4-Wire Touch Screen controller with Low-Voltage I/O Interface, 16-Pin TSSOP, Pb-Free; Published: 6-Oct-2005; DatasheetVersion: Jan-2005; PackageVersion: Feb-1999; PackageReference: PW016; Publisher: Altium Limited; PackageDescription: Shrink Small Outline; 16 Leads; Body Width 4.4 mm; Pitch 0.65 mm; ComponentLink1Description: Manufacturer Link; ComponentLink1URL: http://focus.ti.com/docs/prod/folders/print/tsc2046.html; ComponentLink2Description: Datasheet; ComponentLink2URL: http://focus.ti.com/lit/ds/symlink/tcs2046.pdf
footprint PW016 (Shrink Small Outline; 16 Leads; Body Width 4.4 mm; Pitch 0.65 mm)
pins: 1 +VCC (power), 2 X+ (in), 3 Y+ (in), 4 X- (in), 5 Y- (in), 6 GND (power), 7 VBAT (power), 8 AUX (in), 9 VREF (power), 10 IOVDD (power), 11 ~{PENIRQ} (in), 12 DOUT (out), 13 BUSY (out), 14 DIN (in), 15 ~{CS} (in), 16 DCLK (in)

## TSC2046IRGVR
designator U?
4-Wire Touch Screen controller with Low-Voltage I/O Interface, 16-Pin QFN, Pb-Free; Published: 6-Oct-2005; LatestRevisionDate: 13-Apr-2006; LatestRevisionNote: IPC-7351 Footprint Added.; DatasheetVersion: Jan-2005; PackageVersion: Apr-2003; PackageReference: RGV16; Publisher: Altium Limited; PackageDescription: 16-Pin Plastic Quad Flat No-Lead 0.65 mm Pitch; Code_JEDEC: MO-220; ComponentLink1Description: Manufacturer Link; ComponentLink1URL: http://focus.ti.com/docs/prod/folders/print/tsc2046.html; ComponentLink2Description: Datasheet; ComponentLink2URL: http://focus.ti.com/lit/ds/symlink/tcs2046.pdf
footprint RGV16_N (QFN, 16-Leads, Body 4x4 mm, Pitch 0.65mm, IPC Medium Density)
footprint RGV16_L (QFN, 16-Leads, Body 4x4 mm, Pitch 0.65mm, IPC High Density)
footprint RGV16_M (QFN, 16-Leads, Body 4x4 mm, Pitch 0.65mm, IPC Low Density)
pins: 1 BUSY (out), 2 DIN (in), 3 CS (in), 4 DCLK (in), 5 +VCC (power), 6 X+ (in), 7 Y+ (in), 8 X- (in), 9 Y- (in), 10 GND (power), 11 VBAT (power), 12 AUX (in), 13 VREF (power), 14 IOVDD (power), 15 PENIRQ (in), 16 DOUT (out), 17 Thermal Pad (power)

## TSC2046IRGVRG4
designator U?
4-Wire Touch Screen controller with Low-Voltage I/O Interface, 16-Pin QFN, Pb-Free; Published: 6-Oct-2005; LatestRevisionDate: 13-Apr-2006; LatestRevisionNote: IPC-7351 Footprint Added.; DatasheetVersion: Jan-2005; PackageVersion: Apr-2003; PackageReference: RGV16; Publisher: Altium Limited; PackageDescription: 16-Pin Plastic Quad Flat No-Lead 0.65 mm Pitch; Code_JEDEC: MO-220; ComponentLink1Description: Manufacturer Link; ComponentLink1URL: http://focus.ti.com/docs/prod/folders/print/tsc2046.html; ComponentLink2Description: Datasheet; ComponentLink2URL: http://focus.ti.com/lit/ds/symlink/tcs2046.pdf
footprint RGV16_N (QFN, 16-Leads, Body 4x4 mm, Pitch 0.65mm, IPC Medium Density)
footprint RGV16_L (QFN, 16-Leads, Body 4x4 mm, Pitch 0.65mm, IPC High Density)
footprint RGV16_M (QFN, 16-Leads, Body 4x4 mm, Pitch 0.65mm, IPC Low Density)
pins: 1 BUSY (out), 2 DIN (in), 3 CS (in), 4 DCLK (in), 5 +VCC (power), 6 X+ (in), 7 Y+ (in), 8 X- (in), 9 Y- (in), 10 GND (power), 11 VBAT (power), 12 AUX (in), 13 VREF (power), 14 IOVDD (power), 15 PENIRQ (in), 16 DOUT (out), 17 Thermal Pad (power)

## TSC2046IRGVT
designator U?
4-Wire Touch Screen controller with Low-Voltage I/O Interface, 16-Pin QFN, Pb-Free; Published: 6-Oct-2005; LatestRevisionDate: 13-Apr-2006; LatestRevisionNote: IPC-7351 Footprint Added.; DatasheetVersion: Jan-2005; PackageVersion: Apr-2003; PackageReference: RGV16; Publisher: Altium Limited; PackageDescription: 16-Pin Plastic Quad Flat No-Lead 0.65 mm Pitch; Code_JEDEC: MO-220; ComponentLink1Description: Manufacturer Link; ComponentLink1URL: http://focus.ti.com/docs/prod/folders/print/tsc2046.html; ComponentLink2Description: Datasheet; ComponentLink2URL: http://focus.ti.com/lit/ds/symlink/tcs2046.pdf
footprint RGV16_N (QFN, 16-Leads, Body 4x4 mm, Pitch 0.65mm, IPC Medium Density)
footprint RGV16_L (QFN, 16-Leads, Body 4x4 mm, Pitch 0.65mm, IPC High Density)
footprint RGV16_M (QFN, 16-Leads, Body 4x4 mm, Pitch 0.65mm, IPC Low Density)
pins: 1 BUSY (out), 2 DIN (in), 3 CS (in), 4 DCLK (in), 5 +VCC (power), 6 X+ (in), 7 Y+ (in), 8 X- (in), 9 Y- (in), 10 GND (power), 11 VBAT (power), 12 AUX (in), 13 VREF (power), 14 IOVDD (power), 15 PENIRQ (in), 16 DOUT (out), 17 Thermal Pad (power)

## TSC2046IZQCR
designator U?
4-Wire Touch Screen controller with Low-Voltage I/O Interface, 48-Pin BGA Microstar Junior, Pb-Free; Published: 6-Oct-2005; LatestRevisionDate: 13-Apr-2006; LatestRevisionNote: IPC-7351 Footprint Added.; DatasheetVersion: Jan-2005; PackageVersion: Oct-2002; PackageReference: ZQC48; Publisher: Altium Limited; PackageDescription: 48-Ball Plastic Ball Grid Array 0.5 mm Pitch; Code_JEDEC: MO-225; ComponentLink1Description: Manufacturer Link; ComponentLink1URL: http://focus.ti.com/docs/prod/folders/print/tsc2046.html; ComponentLink2Description: Datasheet; ComponentLink2URL: http://focus.ti.com/lit/ds/symlink/tcs2046.pdf
footprint ZQC48 (BGA, 48-Leads, Body 4x4mm, Pitch 0.5mm)
pins: A1 NC, A2 DCLK (in), A3 CS (in), A4 DIN (in), A5 BUSY (out), A6 DOUT (out), A7 NC, B1 +VCC (power), B2 NC, B3 NC, B4 NC, B5 NC, B6 NC, B7 PENIRQ (in), C1 +VCC (power), C2 NC, C4 NC, C5 NC, C6 NC, C7 IOVDD (power), D1 X+ (in), D2 NC, D3 NC, D4 NC, D5 NC, D6 NC, D7 VREF (power), E1 Y+ (in), E2 NC, E3 NC, E4 NC, E5 NC, E6 NC, E7 AUX (in), F1 NC, F2 NC, F3 NC, F4 NC, F5 NC, F6 NC, F7 NC, G1 NC, G2 X- (in), G3 Y- (in), G4 GND (power), G5 GND (power), G6 VBAT (power), G7 NC

## TSC2046IZQCR-90
designator U?
4-Wire Touch Screen controller with Low-Voltage I/O Interface, 48-Pin BGA Microstar Junior, Pb-Free; Published: 6-Oct-2005; LatestRevisionDate: 13-Apr-2006; LatestRevisionNote: IPC-7351 Footprint Added.; DatasheetVersion: Jan-2005; PackageVersion: Oct-2002; PackageReference: ZQC48; Publisher: Altium Limited; PackageDescription: 48-Ball Plastic Ball Grid Array 0.5 mm Pitch; Code_JEDEC: MO-225; ComponentLink1Description: Manufacturer Link; ComponentLink1URL: http://focus.ti.com/docs/prod/folders/print/tsc2046.html; ComponentLink2Description: Datasheet; ComponentLink2URL: http://focus.ti.com/lit/ds/symlink/tcs2046.pdf
footprint ZQC48 (BGA, 48-Leads, Body 4x4mm, Pitch 0.5mm)
pins: A1 NC, A2 DCLK (in), A3 CS (in), A4 DIN (in), A5 BUSY (out), A6 DOUT (out), A7 NC, B1 +VCC (power), B2 NC, B3 NC, B4 NC, B5 NC, B6 NC, B7 PENIRQ (in), C1 +VCC (power), C2 NC, C4 NC, C5 NC, C6 NC, C7 IOVDD (power), D1 X+ (in), D2 NC, D3 NC, D4 NC, D5 NC, D6 NC, D7 VREF (power), E1 Y+ (in), E2 NC, E3 NC, E4 NC, E5 NC, E6 NC, E7 AUX (in), F1 NC, F2 NC, F3 NC, F4 NC, F5 NC, F6 NC, F7 NC, G1 NC, G2 X- (in), G3 Y- (in), G4 GND (power), G5 GND (power), G6 VBAT (power), G7 NC

## TSC2046IZQCT
designator U?
4-Wire Touch Screen controller with Low-Voltage I/O Interface, 48-Pin BGA Microstar Junior, Pb-Free; Published: 6-Oct-2005; LatestRevisionDate: 13-Apr-2006; LatestRevisionNote: IPC-7351 Footprint Added.; DatasheetVersion: Jan-2005; PackageVersion: Oct-2002; PackageReference: ZQC48; Publisher: Altium Limited; PackageDescription: 48-Ball Plastic Ball Grid Array 0.5 mm Pitch; Code_JEDEC: MO-225; ComponentLink1Description: Manufacturer Link; ComponentLink1URL: http://focus.ti.com/docs/prod/folders/print/tsc2046.html; ComponentLink2Description: Datasheet; ComponentLink2URL: http://focus.ti.com/lit/ds/symlink/tcs2046.pdf
footprint ZQC48 (BGA, 48-Leads, Body 4x4mm, Pitch 0.5mm)
pins: A1 NC, A2 DCLK (in), A3 CS (in), A4 DIN (in), A5 BUSY (out), A6 DOUT (out), A7 NC, B1 +VCC (power), B2 NC, B3 NC, B4 NC, B5 NC, B6 NC, B7 PENIRQ (in), C1 +VCC (power), C2 NC, C4 NC, C5 NC, C6 NC, C7 IOVDD (power), D1 X+ (in), D2 NC, D3 NC, D4 NC, D5 NC, D6 NC, D7 VREF (power), E1 Y+ (in), E2 NC, E3 NC, E4 NC, E5 NC, E6 NC, E7 AUX (in), F1 NC, F2 NC, F3 NC, F4 NC, F5 NC, F6 NC, F7 NC, G1 NC, G2 X- (in), G3 Y- (in), G4 GND (power), G5 GND (power), G6 VBAT (power), G7 NC

## TSC2100IDA
designator U?
Highly Integrated Touch Screen Controller with On-Chip Processor and Audio Codec, 32-Pin TSSOP, Pb-Free; Published: 6-Oct-2005; DatasheetVersion: Nov-2003; PackageVersion: Nov-1998; PackageReference: DA32; Publisher: Altium Limited; PackageDescription: Shrink Small Outline; 32 Leads; Body Width 6.2 mm; Pitch 0.65 mm; Code_JEDEC: MO-153; ComponentLink1Description: Manufacturer Link; ComponentLink1URL: http://focus.ti.com/docs/prod/folders/print/tsc2100.html; ComponentLink2Description: Datasheet; ComponentLink2URL: http://focus.ti.com/lit/ds/symlink/tcs2100.pdf
footprint DA32 (Shrink Small Outline; 32 Leads; Body Width 6.2 mm; Pitch 0.65 mm)
pins: 1 DIN (in), 2 DOUT (out), 3 BCLK (in), 4 DVDD (power), 5 DVSS (power), 6 IOVDD (power), 7 MCLK (in), 8 SCLK (in), 9 MISO (out), 10 MOSI (in), 11 ~{SS} (in), 12 ~{PINTDAV} (out), 13 MICBIAS (power), 14 MICIN (in), 15 AUX (in), 16 VBAT2 (power), 17 VBAT1 (power), 18 VREF (power), 19 AVSS (power), 20 Y- (in), 21 X- (in), 22 Y+ (in), 23 X+ (in), 24 AVDD (power), 25 HPL (out), 26 DRVSS (power), 27 VGND (power), 28 DRVDD (power), 29 HPR (out), 30 ~{RESET} (in), 31 LRCK (in), 32 ~{PWD}/ADWS (in)

## TSC2100IDAG4
designator U?
Highly Integrated Touch Screen Controller with On-Chip Processor and Audio Codec, 32-Pin TSSOP, Pb-Free; Published: 6-Oct-2005; DatasheetVersion: Nov-2003; PackageVersion: Nov-1998; PackageReference: DA32; Publisher: Altium Limited; PackageDescription: Shrink Small Outline; 32 Leads; Body Width 6.2 mm; Pitch 0.65 mm; Code_JEDEC: MO-153; ComponentLink1Description: Manufacturer Link; ComponentLink1URL: http://focus.ti.com/docs/prod/folders/print/tsc2100.html; ComponentLink2Description: Datasheet; ComponentLink2URL: http://focus.ti.com/lit/ds/symlink/tcs2100.pdf
footprint DA32 (Shrink Small Outline; 32 Leads; Body Width 6.2 mm; Pitch 0.65 mm)
pins: 1 DIN (in), 2 DOUT (out), 3 BCLK (in), 4 DVDD (power), 5 DVSS (power), 6 IOVDD (power), 7 MCLK (in), 8 SCLK (in), 9 MISO (out), 10 MOSI (in), 11 ~{SS} (in), 12 ~{PINTDAV} (out), 13 MICBIAS (power), 14 MICIN (in), 15 AUX (in), 16 VBAT2 (power), 17 VBAT1 (power), 18 VREF (power), 19 AVSS (power), 20 Y- (in), 21 X- (in), 22 Y+ (in), 23 X+ (in), 24 AVDD (power), 25 HPL (out), 26 DRVSS (power), 27 VGND (power), 28 DRVDD (power), 29 HPR (out), 30 ~{RESET} (in), 31 LRCK (in), 32 ~{PWD}/ADWS (in)

## TSC2100IDAR
designator U?
Highly Integrated Touch Screen Controller with On-Chip Processor and Audio Codec, 32-Pin TSSOP, Pb-Free; Published: 6-Oct-2005; DatasheetVersion: Nov-2003; PackageVersion: Nov-1998; PackageReference: DA32; Publisher: Altium Limited; PackageDescription: Shrink Small Outline; 32 Leads; Body Width 6.2 mm; Pitch 0.65 mm; Code_JEDEC: MO-153; ComponentLink1Description: Manufacturer Link; ComponentLink1URL: http://focus.ti.com/docs/prod/folders/print/tsc2100.html; ComponentLink2Description: Datasheet; ComponentLink2URL: http://focus.ti.com/lit/ds/symlink/tcs2100.pdf
footprint DA32 (Shrink Small Outline; 32 Leads; Body Width 6.2 mm; Pitch 0.65 mm)
pins: 1 DIN (in), 2 DOUT (out), 3 BCLK (in), 4 DVDD (power), 5 DVSS (power), 6 IOVDD (power), 7 MCLK (in), 8 SCLK (in), 9 MISO (out), 10 MOSI (in), 11 ~{SS} (in), 12 ~{PINTDAV} (out), 13 MICBIAS (power), 14 MICIN (in), 15 AUX (in), 16 VBAT2 (power), 17 VBAT1 (power), 18 VREF (power), 19 AVSS (power), 20 Y- (in), 21 X- (in), 22 Y+ (in), 23 X+ (in), 24 AVDD (power), 25 HPL (out), 26 DRVSS (power), 27 VGND (power), 28 DRVDD (power), 29 HPR (out), 30 ~{RESET} (in), 31 LRCK (in), 32 ~{PWD}/ADWS (in)

## TSC2100IDARG4
designator U?
Highly Integrated Touch Screen Controller with On-Chip Processor and Audio Codec, 32-Pin TSSOP, Pb-Free; Published: 6-Oct-2005; DatasheetVersion: Nov-2003; PackageVersion: Nov-1998; PackageReference: DA32; Publisher: Altium Limited; PackageDescription: Shrink Small Outline; 32 Leads; Body Width 6.2 mm; Pitch 0.65 mm; Code_JEDEC: MO-153; ComponentLink1Description: Manufacturer Link; ComponentLink1URL: http://focus.ti.com/docs/prod/folders/print/tsc2100.html; ComponentLink2Description: Datasheet; ComponentLink2URL: http://focus.ti.com/lit/ds/symlink/tcs2100.pdf
footprint DA32 (Shrink Small Outline; 32 Leads; Body Width 6.2 mm; Pitch 0.65 mm)
pins: 1 DIN (in), 2 DOUT (out), 3 BCLK (in), 4 DVDD (power), 5 DVSS (power), 6 IOVDD (power), 7 MCLK (in), 8 SCLK (in), 9 MISO (out), 10 MOSI (in), 11 ~{SS} (in), 12 ~{PINTDAV} (out), 13 MICBIAS (power), 14 MICIN (in), 15 AUX (in), 16 VBAT2 (power), 17 VBAT1 (power), 18 VREF (power), 19 AVSS (power), 20 Y- (in), 21 X- (in), 22 Y+ (in), 23 X+ (in), 24 AVDD (power), 25 HPL (out), 26 DRVSS (power), 27 VGND (power), 28 DRVDD (power), 29 HPR (out), 30 ~{RESET} (in), 31 LRCK (in), 32 ~{PWD}/ADWS (in)

## TSC2100IRHB
designator U?
Highly Integrated Touch Screen Controller with On-Chip Processor and Audio Codec, 32-Pin QFN, Pb-Free; Published: 6-Oct-2005; LatestRevisionDate: 13-Apr-2006; LatestRevisionNote: IPC-7351 Footprint Added.; DatasheetVersion: Nov-2003; PackageVersion: 2004; PackageReference: RHB32; Publisher: Altium Limited; PackageDescription: 32-Pin Plastic Quad Flat No-Lead 0.5 mm Pitch; Code_JEDEC: MO-022; ComponentLink1Description: Manufacturer Link; ComponentLink1URL: http://focus.ti.com/docs/prod/folders/print/tsc2100.html; ComponentLink2Description: Datasheet; ComponentLink2URL: http://focus.ti.com/lit/ds/symlink/tcs2100.pdf
footprint RHB32_N (QFN, 32-Leads, Body 5x5mm, Pitch 0.5mm, IPC Medium Density)
footprint RHB32_L (QFN, 32-Leads, Body 5x5mm, Pitch 0.5mm, IPC High Density)
footprint RHB32_M (QFN, 32-Leads, Body 5x5mm, Pitch 0.5mm, IPC Low Density)
pins: 1 DVSS (power), 2 IOVDD (power), 3 MCLK (in), 4 SCLK (in), 5 MISO (out), 6 MOSI (in), 7 ~{SS} (in), 8 ~{PINTDAV} (out), 9 MICBIAS (power), 10 MICIN (in), 11 AUX (in), 12 VBAT2 (power), 13 VBAT1 (power), 14 VREF (power), 15 AVSS (power), 16 Y- (in), 17 X- (in), 18 Y+ (in), 19 X+ (in), 20 AVDD (power), 21 HPL (out), 22 DRVSS (power), 23 VGND (power), 24 DRVDD (power), 25 HPR (out), 26 ~{RESET} (in), 27 LRCK (in), 28 ~{PWD}/ADWS (in), 29 DIN (in), 30 DOUT (out), 31 BCLK (in), 32 DVDD (power), 33 Thermal Pad (power)

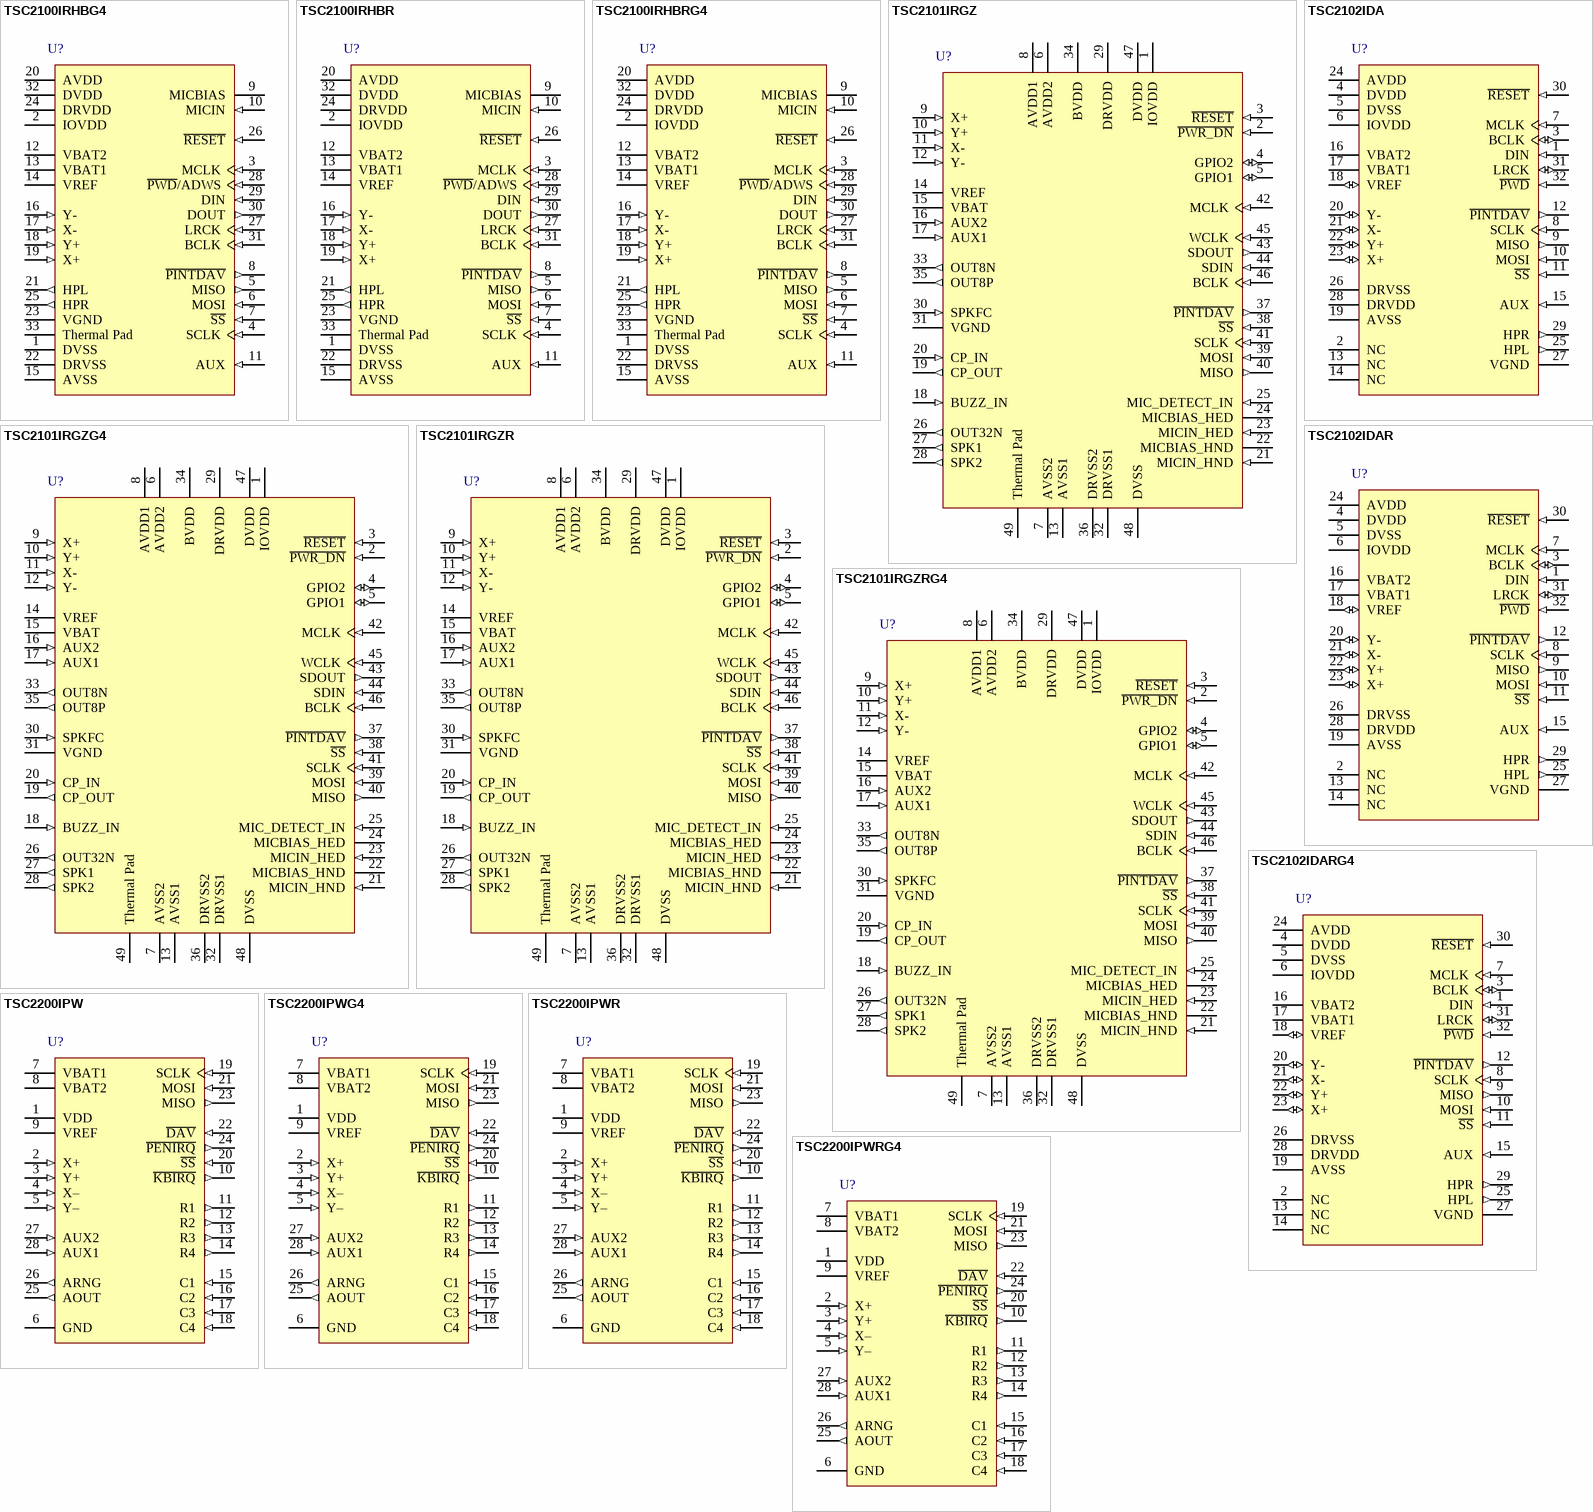
[diagram p2: symbols TSC2100IRHBG4 to TSC2200IPWRG4]

## TSC2100IRHBG4
designator U?
Highly Integrated Touch Screen Controller with On-Chip Processor and Audio Codec, 32-Pin QFN, Pb-Free; Published: 6-Oct-2005; LatestRevisionDate: 13-Apr-2006; LatestRevisionNote: IPC-7351 Footprint Added.; DatasheetVersion: Nov-2003; PackageVersion: 2004; PackageReference: RHB32; Publisher: Altium Limited; PackageDescription: 32-Pin Plastic Quad Flat No-Lead 0.5 mm Pitch; Code_JEDEC: MO-022; ComponentLink1Description: Manufacturer Link; ComponentLink1URL: http://focus.ti.com/docs/prod/folders/print/tsc2100.html; ComponentLink2Description: Datasheet; ComponentLink2URL: http://focus.ti.com/lit/ds/symlink/tcs2100.pdf
footprint RHB32_N (QFN, 32-Leads, Body 5x5mm, Pitch 0.5mm, IPC Medium Density)
footprint RHB32_L (QFN, 32-Leads, Body 5x5mm, Pitch 0.5mm, IPC High Density)
footprint RHB32_M (QFN, 32-Leads, Body 5x5mm, Pitch 0.5mm, IPC Low Density)
pins: 1 DVSS (power), 2 IOVDD (power), 3 MCLK (in), 4 SCLK (in), 5 MISO (out), 6 MOSI (in), 7 ~{SS} (in), 8 ~{PINTDAV} (out), 9 MICBIAS (power), 10 MICIN (in), 11 AUX (in), 12 VBAT2 (power), 13 VBAT1 (power), 14 VREF (power), 15 AVSS (power), 16 Y- (in), 17 X- (in), 18 Y+ (in), 19 X+ (in), 20 AVDD (power), 21 HPL (out), 22 DRVSS (power), 23 VGND (power), 24 DRVDD (power), 25 HPR (out), 26 ~{RESET} (in), 27 LRCK (in), 28 ~{PWD}/ADWS (in), 29 DIN (in), 30 DOUT (out), 31 BCLK (in), 32 DVDD (power), 33 Thermal Pad (power)

## TSC2100IRHBR
designator U?
Highly Integrated Touch Screen Controller with On-Chip Processor and Audio Codec, 32-Pin QFN, Pb-Free; Published: 6-Oct-2005; LatestRevisionDate: 13-Apr-2006; LatestRevisionNote: IPC-7351 Footprint Added.; DatasheetVersion: Nov-2003; PackageVersion: 2004; PackageReference: RHB32; Publisher: Altium Limited; PackageDescription: 32-Pin Plastic Quad Flat No-Lead 0.5 mm Pitch; Code_JEDEC: MO-022; ComponentLink1Description: Manufacturer Link; ComponentLink1URL: http://focus.ti.com/docs/prod/folders/print/tsc2100.html; ComponentLink2Description: Datasheet; ComponentLink2URL: http://focus.ti.com/lit/ds/symlink/tcs2100.pdf
footprint RHB32_N (QFN, 32-Leads, Body 5x5mm, Pitch 0.5mm, IPC Medium Density)
footprint RHB32_L (QFN, 32-Leads, Body 5x5mm, Pitch 0.5mm, IPC High Density)
footprint RHB32_M (QFN, 32-Leads, Body 5x5mm, Pitch 0.5mm, IPC Low Density)
pins: 1 DVSS (power), 2 IOVDD (power), 3 MCLK (in), 4 SCLK (in), 5 MISO (out), 6 MOSI (in), 7 ~{SS} (in), 8 ~{PINTDAV} (out), 9 MICBIAS (power), 10 MICIN (in), 11 AUX (in), 12 VBAT2 (power), 13 VBAT1 (power), 14 VREF (power), 15 AVSS (power), 16 Y- (in), 17 X- (in), 18 Y+ (in), 19 X+ (in), 20 AVDD (power), 21 HPL (out), 22 DRVSS (power), 23 VGND (power), 24 DRVDD (power), 25 HPR (out), 26 ~{RESET} (in), 27 LRCK (in), 28 ~{PWD}/ADWS (in), 29 DIN (in), 30 DOUT (out), 31 BCLK (in), 32 DVDD (power), 33 Thermal Pad (power)

## TSC2100IRHBRG4
designator U?
Highly Integrated Touch Screen Controller with On-Chip Processor and Audio Codec, 32-Pin QFN, Pb-Free; Published: 6-Oct-2005; LatestRevisionDate: 13-Apr-2006; LatestRevisionNote: IPC-7351 Footprint Added.; DatasheetVersion: Nov-2003; PackageVersion: 2004; PackageReference: RHB32; Publisher: Altium Limited; PackageDescription: 32-Pin Plastic Quad Flat No-Lead 0.5 mm Pitch; Code_JEDEC: MO-022; ComponentLink1Description: Manufacturer Link; ComponentLink1URL: http://focus.ti.com/docs/prod/folders/print/tsc2100.html; ComponentLink2Description: Datasheet; ComponentLink2URL: http://focus.ti.com/lit/ds/symlink/tcs2100.pdf
footprint RHB32_N (QFN, 32-Leads, Body 5x5mm, Pitch 0.5mm, IPC Medium Density)
footprint RHB32_L (QFN, 32-Leads, Body 5x5mm, Pitch 0.5mm, IPC High Density)
footprint RHB32_M (QFN, 32-Leads, Body 5x5mm, Pitch 0.5mm, IPC Low Density)
pins: 1 DVSS (power), 2 IOVDD (power), 3 MCLK (in), 4 SCLK (in), 5 MISO (out), 6 MOSI (in), 7 ~{SS} (in), 8 ~{PINTDAV} (out), 9 MICBIAS (power), 10 MICIN (in), 11 AUX (in), 12 VBAT2 (power), 13 VBAT1 (power), 14 VREF (power), 15 AVSS (power), 16 Y- (in), 17 X- (in), 18 Y+ (in), 19 X+ (in), 20 AVDD (power), 21 HPL (out), 22 DRVSS (power), 23 VGND (power), 24 DRVDD (power), 25 HPR (out), 26 ~{RESET} (in), 27 LRCK (in), 28 ~{PWD}/ADWS (in), 29 DIN (in), 30 DOUT (out), 31 BCLK (in), 32 DVDD (power), 33 Thermal Pad (power)